# Altium schematic symbol library Digital Isolator.SchLib: 6 symbols
Pins are listed as number, name and electrical type; pins without a type are passive.

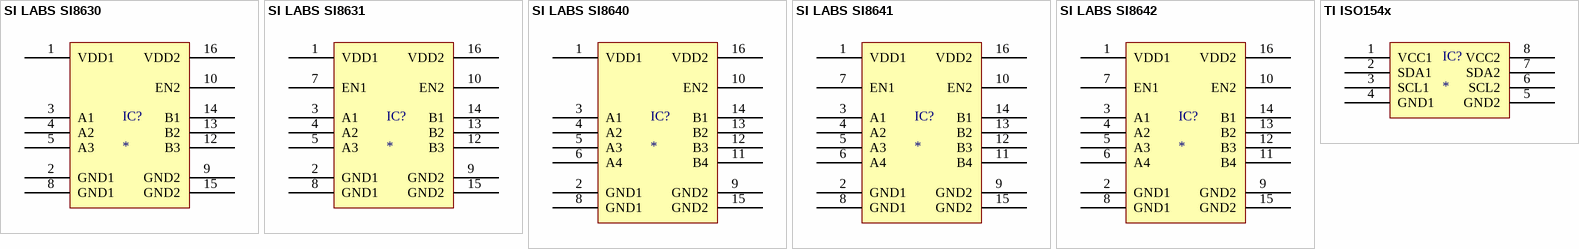
[diagram p0: symbols SI LABS SI8630 to TI ISO154x]

## SI LABS SI8630
designator IC?
pins: 1 VDD1, 2 GND1, 3 A1, 4 A2, 5 A3, 8 GND1, 9 GND2, 10 EN2, 12 B3, 13 B2, 14 B1, 15 GND2, 16 VDD2

## SI LABS SI8631
designator IC?
pins: 1 VDD1, 2 GND1, 3 A1, 4 A2, 5 A3, 7 EN1, 8 GND1, 9 GND2, 10 EN2, 12 B3, 13 B2, 14 B1, 15 GND2, 16 VDD2

## SI LABS SI8640
designator IC?
pins: 1 VDD1, 2 GND1, 3 A1, 4 A2, 5 A3, 6 A4, 8 GND1, 9 GND2, 10 EN2, 11 B4, 12 B3, 13 B2, 14 B1, 15 GND2, 16 VDD2

## SI LABS SI8641
designator IC?
pins: 1 VDD1, 2 GND1, 3 A1, 4 A2, 5 A3, 6 A4, 7 EN1, 8 GND1, 9 GND2, 10 EN2, 11 B4, 12 B3, 13 B2, 14 B1, 15 GND2, 16 VDD2

## SI LABS SI8642
designator IC?
pins: 1 VDD1, 2 GND1, 3 A1, 4 A2, 5 A3, 6 A4, 7 EN1, 8 GND1, 9 GND2, 10 EN2, 11 B4, 12 B3, 13 B2, 14 B1, 15 GND2, 16 VDD2

## TI ISO154x
designator IC?
pins: 1 VCC1, 2 SDA1, 3 SCL1, 4 GND1, 5 GND2, 6 SCL2, 7 SDA2, 8 VCC2